# EAGLE library part YC248-JR-0710KL (library HyTechDevices)
10k 8-resistor array. Replaces Bourns Cat 16 Datasheet <https://www.yageo.com/upload/media/product/productsearch/datasheet/rchip/PYu-YC_TC_group_51_RoHS_L_9.pdf>
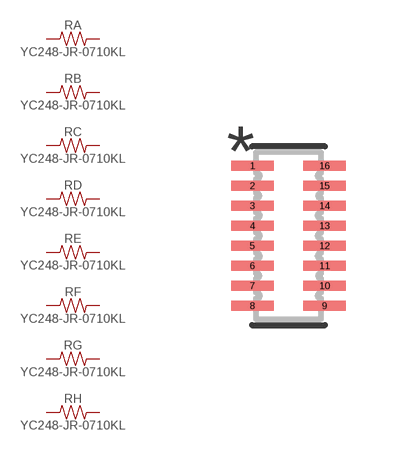
[diagram p36: symbol with the pads of YAG_YC248-M; footprint YAG_YC248-M]

Designator prefix R; gates A=RESISTOR B=RESISTOR C=RESISTOR D=RESISTOR E=RESISTOR F=RESISTOR G=RESISTOR H=RESISTOR

## YC248-JR-0710KL (BUILT_BY: EMA_UL_Team; MANUFACTURER_PART_NUMBER: YC248-JR-0710KL; VENDOR: Yageo)  [YAG_YC248-M]
1  A:1  pas
2  B:1  pas
3  C:1  pas
4  D:1  pas
5  E:1  pas
6  F:1  pas
7  G:1  pas
8  H:1  pas
9  H:2  pas
10  G:2  pas
11  F:2  pas
12  E:2  pas
13  D:2  pas
14  C:2  pas
15  B:2  pas
16  A:2  pas

## Footprint YAG_YC248-M (pad centres in mm)
smd 1.067 x 0.254: 1 -0.902,1.75; 2 -0.902,1.25; 3 -0.902,0.75; 4 -0.902,0.25; 5 -0.902,-0.25; 6 -0.902,-0.75; 7 -0.902,-1.25; 8 -0.902,-1.75; 9 0.902,-1.75; 10 0.902,-1.25; 11 0.902,-0.75; 12 0.902,-0.25; 13 0.902,0.25; 14 0.902,0.75; 15 0.902,1.25; 16 0.902,1.75